# Altium schematic symbol library res_tht_sym_lib.SchLib: 1 symbol
Pins are listed as number, name and electrical type; pins without a type are passive.

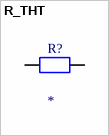
[diagram p0: symbol R_THT]

## R_THT
designator R?
Value: *
footprint PCBComponent_1
pins: 1, 2